# Altium schematic symbol library Voltage regulators.SchLib: 2 symbols
Pins are listed as number, name and electrical type; pins without a type are passive.

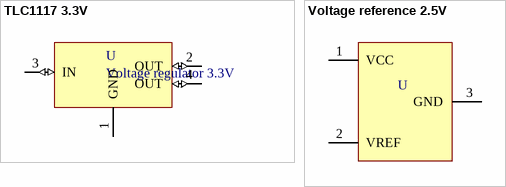
[diagram p0: symbols TLC1117 3.3V to Voltage reference 2.5V]

## TLC1117 3.3V
designator U, comment Voltage regulator 3.3V
footprint TLC1117 3.3V (SOT223)
pins: 1 GND (power), 2 OUT (io), 3 IN (io), 4 OUT (io)

## Voltage reference 2.5V
designator U  (value not drawn)
MCP1525/41
footprint Volatege reference 2.5V (SOT23)
pins: 1 VCC, 2 VREF, 3 GND